# EAGLE library part 1-794106-0 (library IowaFormula)
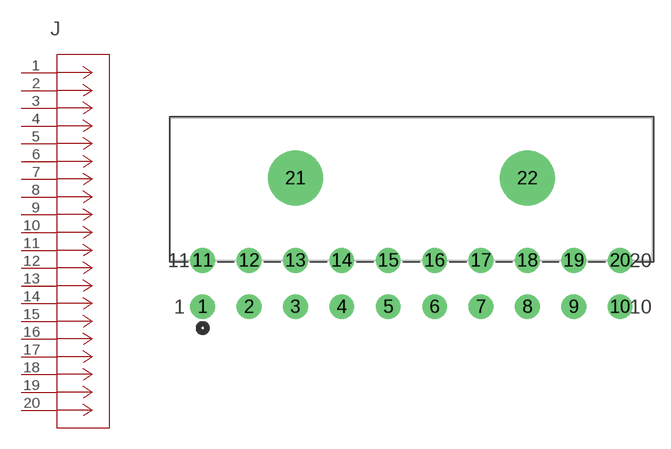
[diagram p4: symbol with the pads of CON20_2X10_P4.14MM_RAMNL; footprint CON20_2X10_P4.14MM_RAMNL]

Designator prefix J

## 1-794106-0 (MANUFACTURER_PART_NUMBER: 17941060; VENDOR: TE Connectivity)  [CON20_2X10_P4.14MM_RAMNL]
1  1  pas
2  2  pas
3  3  pas
4  4  pas
5  5  pas
6  6  pas
7  7  pas
8  8  pas
9  9  pas
10  10  pas
11  11  pas
12  12  pas
13  13  pas
14  14  pas
15  15  pas
16  16  pas
17  17  pas
18  18  pas
19  19  pas
20  20  pas

## Footprint CON20_2X10_P4.14MM_RAMNL (pad centres in mm)
drill 1.473 pad 1.981: 1 -37.262,-4.14; 2 -33.122,-4.14; 3 -28.981,-4.14; 4 -24.841,-4.14; 5 -20.701,-4.14; 6 -16.561,-4.14; 7 -12.421,-4.14; 8 -8.28,-4.14; 9 -4.14,-4.14; 10 0,-4.14; 11 -37.262,0; 12 -33.122,0; 13 -28.981,0; 14 -24.841,0; 15 -20.701,0; 16 -16.561,0; 17 -12.421,0; 18 -8.28,0; 19 -4.14,0; 20 0,0
drill 3.912 pad 3.912: 21 -28.981,7.341; 22 -8.28,7.341